# Altium footprint library MZBT_PcpLibrary.PcbLib: 144 footprints (part 9 of 9)
Each footprint in its own frame and in the unit in brackets; x right, y up, seen from the top. Pads: shape width x height; smd on the part's side, far side on the other; paste and mask are expansions set on the pad; w line width, h text height; cw(c..) or ccw(c..) is an arc to the next point about the centre after c.
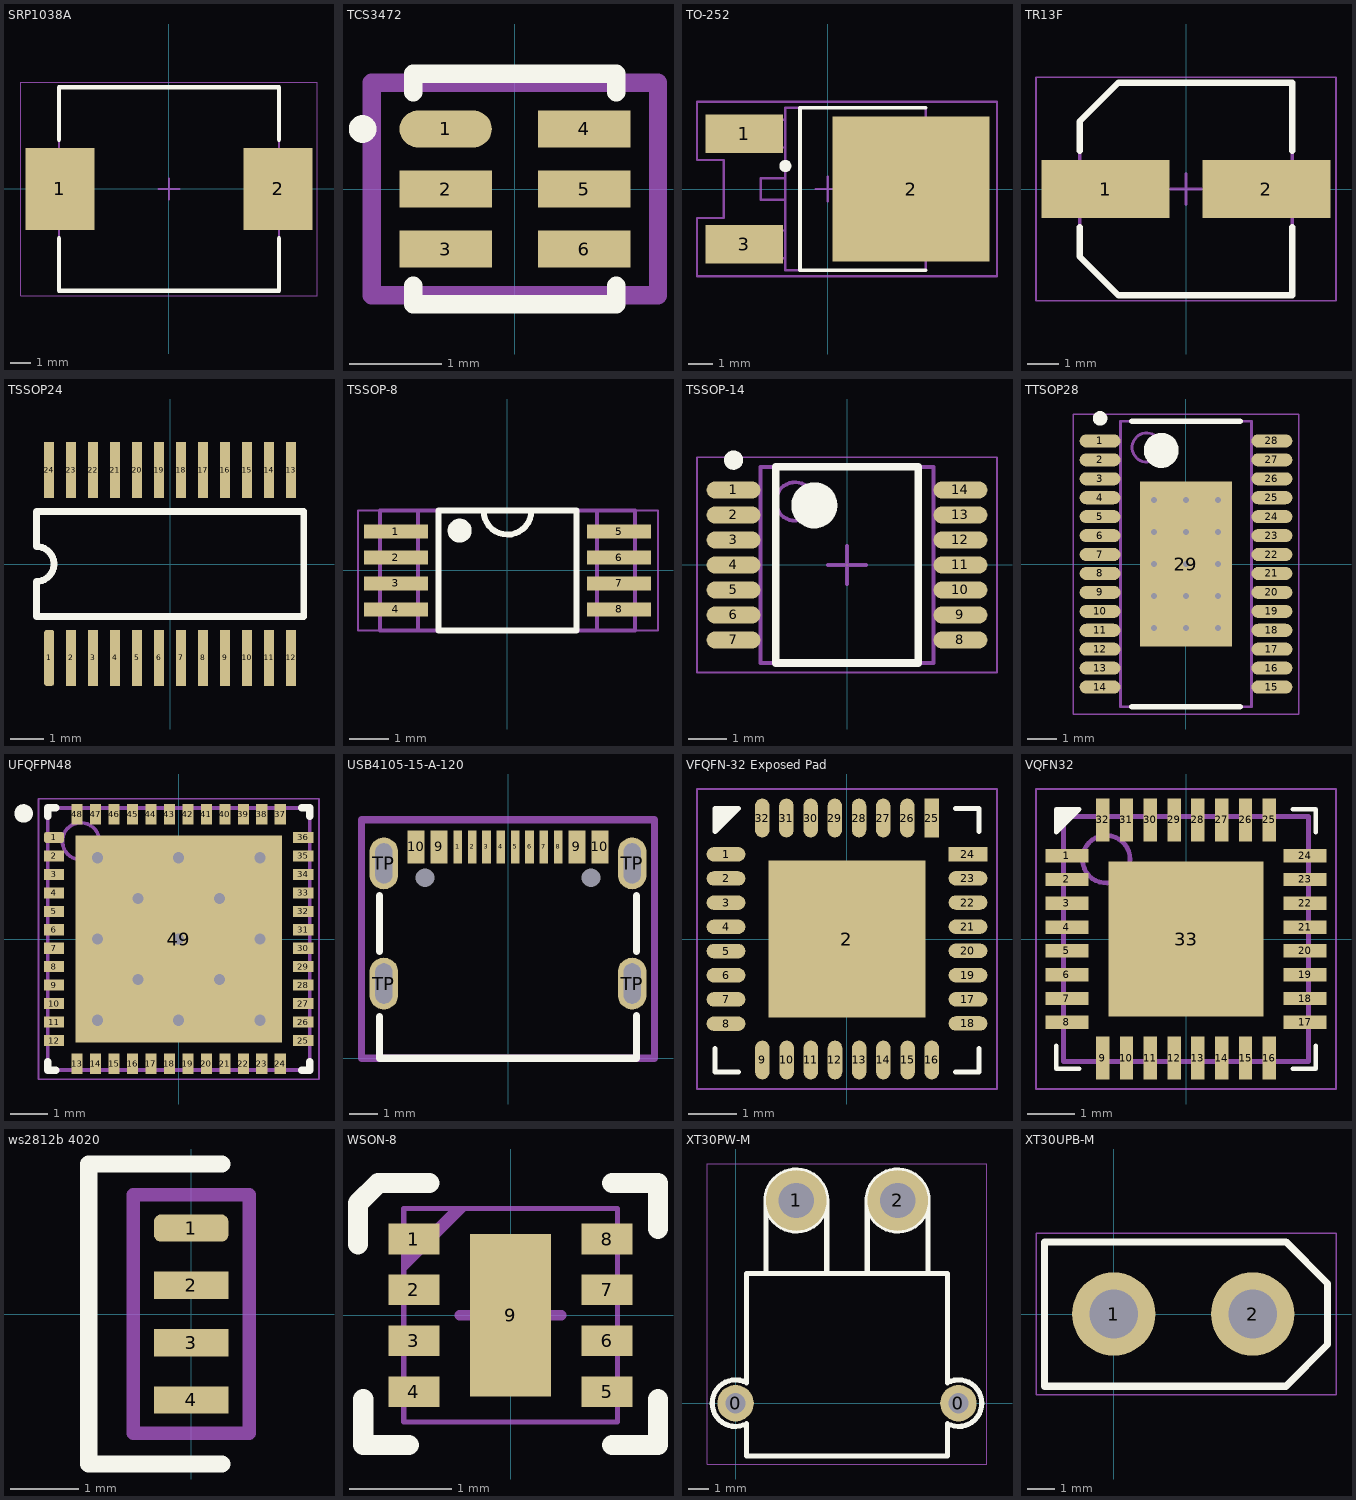
[diagram p8: the footprints below, top view; thin cyan lines are the x and y axes]

## SRP1038A [mm] "SRP1038A-4R7M"
height 4
pads (2):
  rect 3.3x3.9 smd: 1(-5.2,0) 2(5.2,0)
Top Overlay:
  lines w0.2: -5.25,-2.35 -5.25,-4.85 5.25,-4.85 5.25,-2.35 ; -5.25,2.35 -5.25,4.85 5.25,4.85 5.25,2.35
Top Comment:
  text ".Comment" at -2.189,-0.952 h1.52
Top Designator (Mech9):
  text ".Designator" at -2.617,0.272 h1.52
Top 3D Body (Mech13):
  lines w0.1: -5.25,-4.85 5.25,-4.85 5.25,4.85 -5.25,4.85 -5.25,-4.85
Top Courtyard:
  lines w0.05: -7.075,-5.1 7.075,-5.1 7.075,5.1 -7.075,5.1 -7.075,-5.1
  lines w0.1: -0.5,0 0.5,0 ; 0,-0.5 0,0.5
3D body "User Library-Bourns_SRP1038A_series_CASE-Non-Lead-Frame.step": height 4, standoff 0, extent -5.5,-5.15 5.5,5.15

## TCS3472 [mm]
pads (6):
  oval 1x0.4 smd: 1(-0.75,0.65)
  rect 1x0.4 smd: 2(-0.75,0) 3(-0.75,-0.65) 4(0.75,0.65) 5(0.75,0) 6(0.75,-0.65)
Top Overlay:
  circle w0.2: c-1.65,0.65 r0.05
  lines w0.2: -1.1,-1.05 -1.1,-1.25 1.1,-1.25 1.1,-1.05 ; -1.1,1.05 -1.1,1.25 1.1,1.25 1.1,1.05
Top Courtyard:
  lines w0.2: -1.55,-1.15 1.55,-1.15 1.55,1.15 -1.55,1.15 -1.55,-1.15

## TO-252 [mm] "TO-252(DPAK) Package"
height 2.55
pads (3):
  rect 3.2x1.6 smd: 1(-3.45,2.285) 3(-3.45,-2.285)
  rect 6.5x6 smd: 2(3.45,0)
Top Overlay:
  circle w0.25: c-1.75,0.95 r0.125
  lines w0.15: 4.05,-3.36 -1.14,-3.36 -1.14,3.36 4.05,3.36
Top Component Outline:
  lines w0.1: -1.75,-2.855 -4.34,-2.855 -4.34,-1.715 -1.75,-1.715 ; -1.75,-0.44 -2.77,-0.44 -2.77,0.44 -1.75,0.44 ; -1.75,1.715 -4.34,1.715 -4.34,2.855 -1.75,2.855 ; 4.05,-2.73 6.08,-2.73 6.08,2.73 4.05,2.73 ; -1.75,-3.36 4.05,-3.36 4.05,3.36 -1.75,3.36 -1.75,-3.36
Top Courtyard:
  lines w0.1: -0.5,0 0.5,0 ; 0,-0.5 0,0.5 ; -5.4,-3.6 -4.2,-3.6 -2,-3.6 4.3,-3.6 6.1,-3.6 7,-3.6 7,3.6 6.1,3.6 4.3,3.6 -2,3.6 -4.2,3.6 -5.4,3.6 -5.4,1.2 -4.3,1.2 -4.3,-1.2 -5.4,-1.2 -5.4,-3.6
3D body "SW3dPS-DPAK-1.STEP": height 2.34, standoff -0.07, extent -4.038,-3.295 5.9,3.245

## TR13F [mm] "Aluminum Electrolytic Capacitor, Body 6,60x6,60x6,30mm, IPC Low Density"
height 6.3
pads (2):
  rect 4.1x1.85 smd: 1(-2.575,0) 2(2.575,0)
Top Overlay:
  lines w0.2: -3.4,-1.225 -3.4,-2.163 -2.163,-3.4 3.4,-3.4 3.4,-1.225 ; -3.4,1.225 -3.4,2.163 -2.163,3.4 3.4,3.4 3.4,1.225
Top Comment:
  text ".Comment" at -2.189,-0.952 h1.52
Top Designator (Mech9):
  text ".Designator" at -2.617,0.272 h1.52
Top 3D Body (Mech13):
  lines w0.1: -3.4,-2.163 -2.163,-3.4 3.4,-3.4 3.4,3.4 -2.163,3.4 -3.4,2.163 -3.4,-2.163
Top Courtyard:
  lines w0.05: -4.8,-3.575 -4.8,3.575 4.8,3.575 4.8,-3.575 -4.8,-3.575
  lines w0.1: -0.5,0 0.5,0 ; 0,-0.5 0,0.5
3D body "User Library-capacitor size D.step": height 5.41, standoff -0.01, extent -3.5,-3.3 3.5,3.3

## TSSOP24 [mm] "Shrink Small Outline; 24 Leads; Body Width 4.4 mm; Pitch 0.65 mm"
height 1.2
pads (24):
  rrect50% 0.3x1.65 smd: 1(-3.575,-2.775)
  rect 0.3x1.65 smd: 2(-2.925,-2.775) 3(-2.275,-2.775) 4(-1.625,-2.775) 5(-0.975,-2.775) 6(-0.325,-2.775) 7(0.325,-2.775) 8(0.975,-2.775) 9(1.625,-2.775) 10(2.275,-2.775) 11(2.925,-2.775) 12(3.575,-2.775) 13(3.575,2.775) 14(2.925,2.775) 15(2.275,2.775) 16(1.625,2.775) 17(0.975,2.775) 18(0.325,2.775) 19(-0.325,2.775) 20(-0.975,2.775) 21(-1.625,2.775) 22(-2.275,2.775) 23(-2.925,2.775) 24(-3.575,2.775)
Top Overlay:
  lines w0.2: -3.95,-1.55 -3.95,-0.517 ccw(c-3.95,0) -3.95,0.517 -3.95,1.55 3.95,1.55 3.95,-1.55 -3.95,-1.55
Top Comment:
  text ".Comment" at -2.189,-0.952 h1.52
Top Designator (Mech9):
  text ".Designator" at -2.617,0.272 h1.52
3D body "TSSOP24.STEP": height 1.2, standoff 0, extent -3.95,-3.3 3.95,3.3

## TSSOP-8 [mm]
height 1.99
pads (8):
  rect 1.6x0.35 smd: 1(-2.8,0.975) 2(-2.8,0.325) 3(-2.8,-0.325) 4(-2.8,-0.975) 5(2.8,0.975) 6(2.8,0.325) 7(2.8,-0.325) 8(2.8,-0.975)
Top Overlay:
  circle w0.3: c-1.2,1 r0.15
  lines w0.15: -0.6,1.5 ccw(c0,1.5) 0.6,1.49 ; -1.725,-1.5 -1.725,1.5 1.725,1.5 1.725,-1.5 -1.725,-1.5
Top Comment:
  text ".Comment" at -1.013,-0.441 h0.7
Top Designator (Mech9):
  text ".Designator" at -1.21,0.122 h0.7
Top Component Outline:
  lines w0.1: -2.25,-1.5 -2.25,1.5 ; -0.6,1.5 ccw(c0,1.5) 0.6,1.49 ; 2.25,-1.5 2.25,1.5 ; -3.2,-1.5 -3.2,1.5 3.2,1.5 3.2,-1.5 -3.2,-1.5
Top Courtyard:
  lines w0.05: -3.75,-1.5 3.775,-1.5 3.775,1.5 -3.75,1.5 -3.75,-1.5
3D body "User Library-TSSOP-8, 3x4_4mm.step": height 1.17, standoff 0, extent -3.2,-1.5 3.2,1.5

## TSSOP-14 [mm]
height 1.2
pads (14):
  oval 1.4x0.45 smd: 1(-2.95,1.95) 2(-2.95,1.3) 3(-2.95,0.65) 4(-2.95,0) 5(-2.95,-0.65) 6(-2.95,-1.3) 7(-2.95,-1.95) 8(2.95,-1.95) 9(2.95,-1.3) 10(2.95,-0.65) 11(2.95,0) 12(2.95,0.65) 13(2.95,1.3) 14(2.95,1.95)
Top Overlay:
  circle w0.25: c-2.95,2.725 r0.125
  circle w0.6: c-0.85,1.55 r0.3
  lines w0.2: -1.85,-2.55 -1.85,2.55 1.85,2.55 1.85,-2.55 -1.85,-2.55
Top Comment:
  text ".Comment" at -0.861,-0.374 h0.6
Top Designator (Mech9):
  text ".Designator" at -1.376,0.143 h0.8
Top 3D Body (Mech13):
  circle w0.1: c-1.35,1.65 r0.5
  lines w0.1: -2.25,-2.55 -2.25,2.55 2.25,2.55 2.25,-2.55 -2.25,-2.55
Top Courtyard:
  lines w0.05: -3.9,-2.8 -3.9,2.8 3.9,2.8 3.9,-2.8 -3.9,-2.8
  lines w0.1: -0.5,0 0.5,0 ; 0,-0.5 0,0.5
3D body: height 1.2, standoff 0.05, extent -2.275,-2.625 2.225,2.475

## TTSOP28 [mm] "TSOP, 28-Leads, Body 9,70x4,40mm, Pitch 0,65mm, Thermal Pad 5,65x3,15mm, IPC Medium Density"
height 1.1
pads (29):
  oval 1.4x0.45 smd: 1(-2.95,4.225) 2(-2.95,3.575) 3(-2.95,2.925) 4(-2.95,2.275) 5(-2.95,1.625) 6(-2.95,0.975) 7(-2.95,0.325) 8(-2.95,-0.325) 9(-2.95,-0.975) 10(-2.95,-1.625) 11(-2.95,-2.275) 12(-2.95,-2.925) 13(-2.95,-3.575) 14(-2.95,-4.225) 15(2.95,-4.225) 16(2.95,-3.575) 17(2.95,-2.925) 18(2.95,-2.275) 19(2.95,-1.625) 20(2.95,-0.975) 21(2.95,-0.325) 22(2.95,0.325) 23(2.95,0.975) 24(2.95,1.625) 25(2.95,2.275) 26(2.95,2.925) 27(2.95,3.575) 28(2.95,4.225)
  rect 3.15x5.65 smd: 29(0,0)
via -1.1,2.2 diameter 0.5 hole 0.2
via 0,2.2 diameter 0.5 hole 0.2
via 1.1,2.2 diameter 0.5 hole 0.2
via -1.1,1.1 diameter 0.5 hole 0.2
via 0,1.1 diameter 0.5 hole 0.2
via 1.1,1.1 diameter 0.5 hole 0.2
via -1.1,0 diameter 0.5 hole 0.2
via 0,0 diameter 0.5 hole 0.2
via 1.1,0 diameter 0.5 hole 0.2
via -1.1,-1.1 diameter 0.5 hole 0.2
via 0,-1.1 diameter 0.5 hole 0.2
via 1.1,-1.1 diameter 0.5 hole 0.2
via -1.1,-2.2 diameter 0.5 hole 0.2
via 0,-2.2 diameter 0.5 hole 0.2
via 1.1,-2.2 diameter 0.5 hole 0.2
Top Overlay:
  circle w0.25: c-2.95,5 r0.125
  circle w0.6: c-0.85,3.9 r0.3
  lines w0.2: -1.85,-4.9 1.85,-4.9 ; -1.85,4.9 1.85,4.9
Top 3D Body (Mech13):
  circle w0.1: c-1.35,4 r0.5
  lines w0.1: -2.25,-4.9 -2.25,4.9 2.25,4.9 2.25,-4.9 -2.25,-4.9
Top Courtyard:
  lines w0.05: -3.875,-5.15 -3.875,5.15 3.875,5.15 3.875,-5.15 -3.875,-5.15
  lines w0.1: -0.5,0 0.5,0 ; 0,-0.5 0,0.5
3D body: height 1.1, standoff 0, extent -2.25,-4.9 2.25,4.9

## UFQFPN48 [mm] "PQFN, 48-Leads, Body 7,00x7,00mm, Pitch 0,50mm, Thermal Pad 5,60x5,60mm, IPC Medium Density"
height 0.6
pads (49):
  rrect50% 0.55x0.3 smd: 1(-3.375,2.75)
  rect 0.55x0.3 smd: 2(-3.375,2.25) 3(-3.375,1.75) 4(-3.375,1.25) 5(-3.375,0.75) 6(-3.375,0.25) 7(-3.375,-0.25) 8(-3.375,-0.75) 9(-3.375,-1.25) 10(-3.375,-1.75) 11(-3.375,-2.25) 12(-3.375,-2.75) 25(3.375,-2.75) 26(3.375,-2.25) 27(3.375,-1.75) 28(3.375,-1.25) 29(3.375,-0.75) 30(3.375,-0.25) 31(3.375,0.25) 32(3.375,0.75) 33(3.375,1.25) 34(3.375,1.75) 35(3.375,2.25) 36(3.375,2.75)
  rect 0.3x0.55 smd: 13(-2.75,-3.375) 14(-2.25,-3.375) 15(-1.75,-3.375) 16(-1.25,-3.375) 17(-0.75,-3.375) 18(-0.25,-3.375) 19(0.25,-3.375) 20(0.75,-3.375) 21(1.25,-3.375) 22(1.75,-3.375) 23(2.25,-3.375) 24(2.75,-3.375) 37(2.75,3.375) 38(2.25,3.375) 39(1.75,3.375) 40(1.25,3.375) 41(0.75,3.375) 42(0.25,3.375) 43(-0.25,3.375) 44(-0.75,3.375) 45(-1.25,3.375) 46(-1.75,3.375) 47(-2.25,3.375) 48(-2.75,3.375)
  rect 5.6x5.6 smd: 49(0,0)
via 2.2,-2.2 diameter 0.6 hole 0.3
via 0,-2.2 diameter 0.6 hole 0.3
via -2.2,-2.2 diameter 0.6 hole 0.3
via 1.1,-1.1 diameter 0.6 hole 0.3
via -1.1,-1.1 diameter 0.6 hole 0.3
via 2.2,0 diameter 0.6 hole 0.3
via 0,0 diameter 0.6 hole 0.3
via -2.2,0 diameter 0.6 hole 0.3
via 1.1,1.1 diameter 0.6 hole 0.3
via -1.1,1.1 diameter 0.6 hole 0.3
via 2.2,2.2 diameter 0.6 hole 0.3
via 0,2.2 diameter 0.6 hole 0.3
via -2.2,2.2 diameter 0.6 hole 0.3
Top Overlay:
  circle w0.25: c-4.2,3.4 r0.125
  lines w0.2: -3.55,-3.325 -3.55,-3.55 -3.325,-3.55 ; -3.55,3.325 -3.55,3.55 -3.325,3.55 ; 3.325,-3.55 3.55,-3.55 3.55,-3.325 ; 3.325,3.55 3.55,3.55 3.55,3.325
Top 3D Body (Mech13):
  circle w0.1: c-2.65,2.65 r0.5
  lines w0.1: -3.55,-3.55 -3.55,3.55 3.55,3.55 3.55,-3.55 -3.55,-3.55
Top Courtyard:
  lines w0.05: -3.8,-3.8 -3.8,3.8 3.8,3.8 3.8,-3.8 -3.8,-3.8
  lines w0.1: -0.5,0 0.5,0 ; 0,-0.5 0,0.5
3D body: height 0.6, standoff 0, extent -3.55,-3.55 3.55,3.55

## USB4105-15-A-120 [mm] "USB Type-c 16p USB4105-15-A-120"
pads (18):
  rect 0.3x1.15 smd: 1(-1.75,7.355) 2(-1.25,7.355) 3(-0.75,7.355) 4(-0.25,7.355) 5(0.25,7.355) 6(0.75,7.355) 7(1.25,7.355) 8(1.75,7.355)
  rect 0.6x1.15 smd: 9(-2.4,7.355) 9(2.4,7.355) 10(-3.2,7.355) 10(3.2,7.355)
  oval 1x1.8 hole 0.6 slot 1.4 at 90 deg: TP(-4.32,2.6) TP(-4.32,6.78) TP(4.32,2.6) TP(4.32,6.78)
  round 0 hole 0.65 unplated: ""(-2.89,6.28) ""(2.89,6.28)
Top Overlay:
  lines w0.254: -4.475,1.45 -4.47,0 4.47,0 4.475,1.475 ; -4.475,3.725 -4.475,5.65 ; 4.475,3.725 4.475,5.65
Top Comment:
  text ".Comment" at -2.189,2.648 h1.52
Top Designator (Mech9):
  text ".Designator" at -2.617,3.872 h1.52
Top Courtyard:
  lines w0.254: -5.1,0 5.1,0 5.1,8.3 -5.1,8.3 -5.1,0
3D body "USB4105-15-A-120.stp": height 3.26, standoff -1.2, extent -4.47,0 4.47,7.7

## VFQFN-32 Exposed Pad [mm]
pads (33):
  oval 0.8x0.3 smd: 1(-2.5,1.751) 2(-2.5,1.251) 3(-2.5,0.751) 4(-2.5,0.251) 5(-2.5,-0.249) 6(-2.5,-0.749) 7(-2.5,-1.249) 8(-2.5,-1.749) 17(2.5,-1.246) 18(2.5,-1.746) 19(2.5,-0.746) 20(2.5,-0.246) 21(2.5,0.254) 22(2.5,0.754) 23(2.5,1.254)
  rect 3.25x3.25 smd: 2(0,0)
  oval 0.3x0.8 smd: 9(-1.748,-2.5) 10(-1.248,-2.5) 11(-0.748,-2.5) 12(-0.248,-2.5) 13(0.252,-2.5) 14(0.752,-2.5) 15(1.252,-2.5) 16(1.752,-2.5) 26(1.249,2.5) 27(0.749,2.5) 28(0.249,2.5) 29(-0.251,2.5) 30(-0.751,2.5) 31(-1.251,2.5) 32(-1.751,2.5)
  rect 0.8x0.3 smd: 24(2.5,1.754)
  rect 0.3x0.8 smd: 25(1.749,2.5)
Top Overlay:
  region: -2.725,2.7 -2.24,2.7 -2.725,2.215
  lines w0.1: -2.725,-2.265 -2.725,-2.75 -2.24,-2.75 ; 2.24,-2.75 2.725,-2.75 2.725,-2.265 ; 2.24,2.7 2.725,2.7 2.725,2.215 ; -2.725,2.215 -2.24,2.7 -2.725,2.7 -2.725,2.215
Top Designator:
  text ".Designator" at -1.586,-0.381 h0.8
Top Comment:
  text ".Comment" at -0.861,-0.374 h0.6
  text ".Comment" at -1.127,-1.273 h0.6
Top Designator (Mech9):
  text ".Designator" at -1.376,0.143 h0.8
Top Courtyard:
  lines w0.05: -3.1,-3.1 3.1,-3.1 3.1,3.1 -3.1,3.1 -3.1,-3.1

## VQFN32 [mm]
height 1
pads (33):
  rect 0.9x0.28 smd mask+0.05: 1(-2.5,1.75) 2(-2.5,1.25) 3(-2.5,0.75) 4(-2.5,0.25) 5(-2.5,-0.25) 6(-2.5,-0.75) 7(-2.5,-1.25) 8(-2.5,-1.75) 17(2.5,-1.75) 18(2.5,-1.25) 19(2.5,-0.75) 20(2.5,-0.25) 21(2.5,0.25) 22(2.5,0.75) 23(2.5,1.25) 24(2.5,1.75)
  rect 0.28x0.9 smd mask+0.05: 9(-1.75,-2.5) 10(-1.25,-2.5) 11(-0.75,-2.5) 12(-0.25,-2.5) 13(0.25,-2.5) 14(0.75,-2.5) 15(1.25,-2.5) 16(1.75,-2.5) 25(1.75,2.5) 26(1.25,2.5) 27(0.75,2.5) 28(0.25,2.5) 29(-0.25,2.5) 30(-0.75,2.5) 31(-1.25,2.5) 32(-1.75,2.5)
  rect 3.25x3.25 smd mask+0.05: 33(0,0)
Top Overlay:
  region: -2.725,2.725 -2.24,2.725 -2.725,2.24
  lines w0.1: -2.725,-2.24 -2.725,-2.725 -2.24,-2.725 ; 2.24,-2.725 2.725,-2.725 2.725,-2.24 ; 2.24,2.725 2.725,2.725 2.725,2.24 ; -2.725,2.24 -2.24,2.725 -2.725,2.725 -2.725,2.24
Top Comment:
  circle w0.1: c-1.675,1.675 r0.5
  lines w0.1: -2.575,-2.575 2.575,-2.575 2.575,2.575 -2.575,2.575 -2.575,-2.575
  text ".Comment" at -0.861,-0.374 h0.6
Top Designator (Mech9):
  text ".Designator" at -1.376,0.143 h0.8
Top Courtyard:
  lines w0.05: -3.15,-3.15 3.15,-3.15 3.15,3.15 -3.15,3.15 -3.15,-3.15
  lines w0.1: -0.5,0 0.5,0 ; 0,-0.5 0,0.5
3D body: height 1, standoff 0.05, extent -2.575,-2.575 2.575,2.575

## ws2812b 4020 [mm] "ws2812b led in 4020 case"
pads (4):
  rrect50% 1.09x0.4 smd: 1(0,1.26)
  rect 1.09x0.4 smd: 2(0,0.42) 3(0,-0.42) 4(0,-1.26)
Top Overlay:
  lines w0.254: 0.45,-2.2 -1.5,-2.2 -1.5,2.2 0.45,2.2
Top Courtyard:
  lines w0.2: -0.85,-1.75 0.85,-1.75 0.85,1.75 -0.85,1.75 -0.85,-1.75
3D body "User Library-WS2812-4020.step": height 2, standoff 0, extent -1.3,-2 0.45,2

## WSON-8 [mm] "PSON, 8-Leads, Body 4x4mm, Pitch 0.8mm, NSC Recommended"
height 0.8
pads (9):
  rect 0.5x0.3 smd mask+0.051: 1(-0.95,0.75) 2(-0.95,0.25) 3(-0.95,-0.25) 4(-0.95,-0.75) 5(0.95,-0.75) 6(0.95,-0.25) 7(0.95,0.25) 8(0.95,0.75)
  rect 0.8x1.6 smd mask+0.051: 9(0,0)
Top Overlay:
  lines w0.2: -1.5,0.7 -1.5,1.1 -1.3,1.3 -1.275,1.3 -1.026,1.3 -0.8,1.3 ; -1.45,-0.825 -1.45,-1.275 -1,-1.275 ; 1,-1.275 1.45,-1.275 1.45,-0.825 ; 1,1.3 1.45,1.3 1.45,0.85
Top Designator (Mech9):
  text ".Comment" at -0.8,1.45 h0.6
  text ".Designator" at 0.1,-0.95 h0.6
Top Component Outline:
  lines w0.05: -1.05,0.45 -0.45,1.05 ; -1.025,0.525 -0.525,1.025 -0.575,1.025 -1.025,0.575 ; -1.05,-1.05 1.05,-1.05 1.05,1.05 -1.05,1.05 -1.05,-1.05
  lines w0.1: -0.5,0 0.5,0 ; 0,-0.5 0,0.5
3D body "User Library-SON8-2x2mm-1.step": height 0.77, standoff -0.03, extent -1,-1 1,1

## XT30PW-M [mm]
pads (4):
  round 1.8 hole 1: 0(0,0) 0(11,0)
  round 3 hole 1.75: 1(3,10) 2(8,10)
Top Overlay:
  circle w0.254: c3,10 r1.5
  circle w0.254: c8,10 r1.503
  lines w0.254: 1.5,6.4 1.5,10 ; 4.5,10 4.5,6.4 6.5,6.4 6.5,10 ; 9.5,6.4 9.5,10 9.503,10 ; 0.55,-2.6 10.45,-2.6 10.45,-1.01 ccw(c11,0) 10.45,1.01 10.45,6.4 0.55,6.4 0.55,1.01 ccw(c0,0) 0.55,-1.01 0.55,-2.6
Top Comment:
  text ".Comment" at 3.411,0.648 h1.52
Top Designator (Mech9):
  text ".Designator" at 2.983,1.872 h1.52
Top Courtyard:
  lines w0.05: -1.4,-3 12.4,-3 12.4,11.8 -1.4,11.8 -1.4,-3
3D body "User Library-XT30PW-M.step": height 5, standoff -2, extent -1.15,-2.95 12.15,11

## XT30UPB-M [mm]
pads (2):
  round 3 hole 1.75: 1(0,0) 2(5,0)
Top Overlay:
  lines w0.254: 7.7,0.9 7.7,1.1 ; 7.7,1.1 6.2,2.6 -2.5,2.6 -2.5,-2.6 6.2,-2.6 7.7,-1.1 7.7,1.1
Top Comment:
  text ".Comment" at 0.311,-0.952 h1.52
Top Designator (Mech9):
  text ".Designator" at -0.117,0.272 h1.52
Top Courtyard:
  lines w0.05: -2.8,-2.9 -2.8,2.9 8,2.9 8,-2.9 -2.8,-2.9